# Altium footprint library KSA0M411LFTR.PcbLib: 1 footprints
Each footprint in its own frame and in the unit in brackets; x right, y up, seen from the top. Pads: shape width x height; smd on the part's side, far side on the other; paste and mask are expansions set on the pad; w line width, h text height; cw(c..) or ccw(c..) is an arc to the next point about the centre after c.
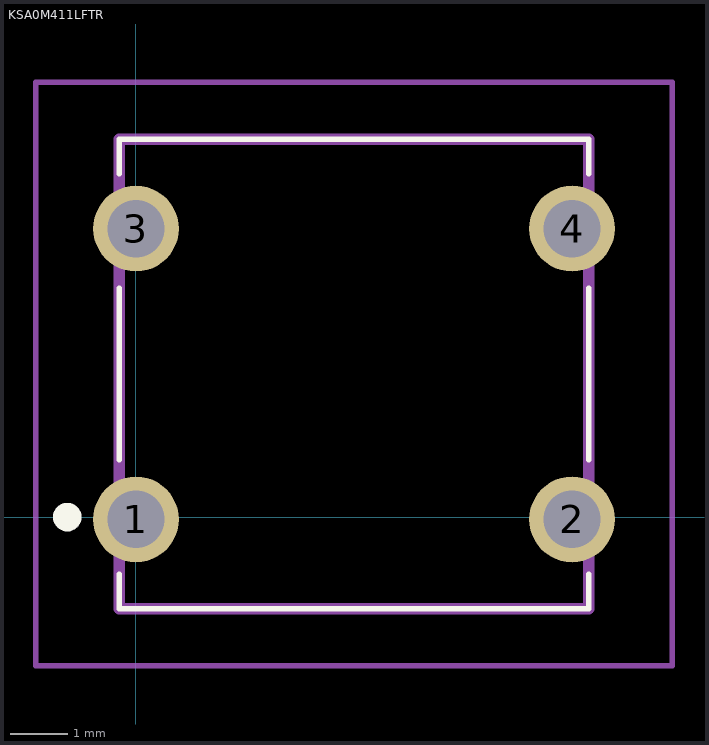
[diagram p0: the footprint, top view; thin cyan lines are the x and y axes]

## KSA0M411LFTR [mm]
pads (4):
  round 1.5 hole 1: 1(0,-0.04) 2(7.62,-0.04) 3(0,5.04) 4(7.62,5.04)
Top Overlay:
  lines w0.1: -0.29,-1 -0.29,-1.6 7.91,-1.6 7.91,-1 ; -0.29,1 -0.29,4 ; -0.29,6 -0.29,6.6 7.91,6.6 7.91,6 ; 7.91,1 7.91,4
  lines w0.3: -1.2,-0.1 cw(c-1.2,0) -1.2,0.1 cw(c-1.2,0) -1.2,-0.1
Mechanical 13:
  lines w0.2: -0.29,-1.6 7.91,-1.6 7.91,6.6 -0.29,6.6 -0.29,-1.6
Mechanical 15:
  lines w0.1: -1.75,-2.6 9.37,-2.6 9.37,7.6 -1.75,7.6 -1.75,-2.6
3D body "KSA0M411LFTR.stp": height 5, standoff -5, extent -0.397,-1.6 8.02,6.6